# Altium schematic symbol library SCH - DAC - SN65LVDS388ADBTR.SCHLIB: 1 symbol
Pins are listed as number, name and electrical type; pins without a type are passive.

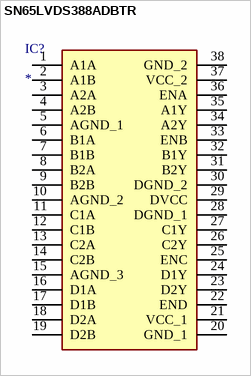
[diagram p0: symbol SN65LVDS388ADBTR]

## SN65LVDS388ADBTR
designator IC?
Integrated Circuit; Manufacturer_Name: Texas Instruments; Manufacturer_Part_Number: SN65LVDS388ADBTR; Datasheet Link: http://www.ti.com/lit/gpn/SN65LVDS388A; Height: 1.2mm
footprint SOP50P640X120-38N
pins: 1 A1A, 2 A1B, 3 A2A, 4 A2B, 5 AGND_1, 6 B1A, 7 B1B, 8 B2A, 9 B2B, 10 AGND_2, 11 C1A, 12 C1B, 13 C2A, 14 C2B, 15 AGND_3, 16 D1A, 17 D1B, 18 D2A, 19 D2B, 20 GND_1, 21 VCC_1, 22 END, 23 D2Y, 24 D1Y, 25 ENC, 26 C2Y, 27 C1Y, 28 DGND_1, 29 DVCC, 30 DGND_2, 31 B2Y, 32 B1Y, 33 ENB, 34 A2Y, 35 A1Y, 36 ENA, 37 VCC_2, 38 GND_2